# Altium schematic symbol library КОТ-С.SchLib: 64 symbols
Pins are listed as number, name and electrical type; pins without a type are passive.

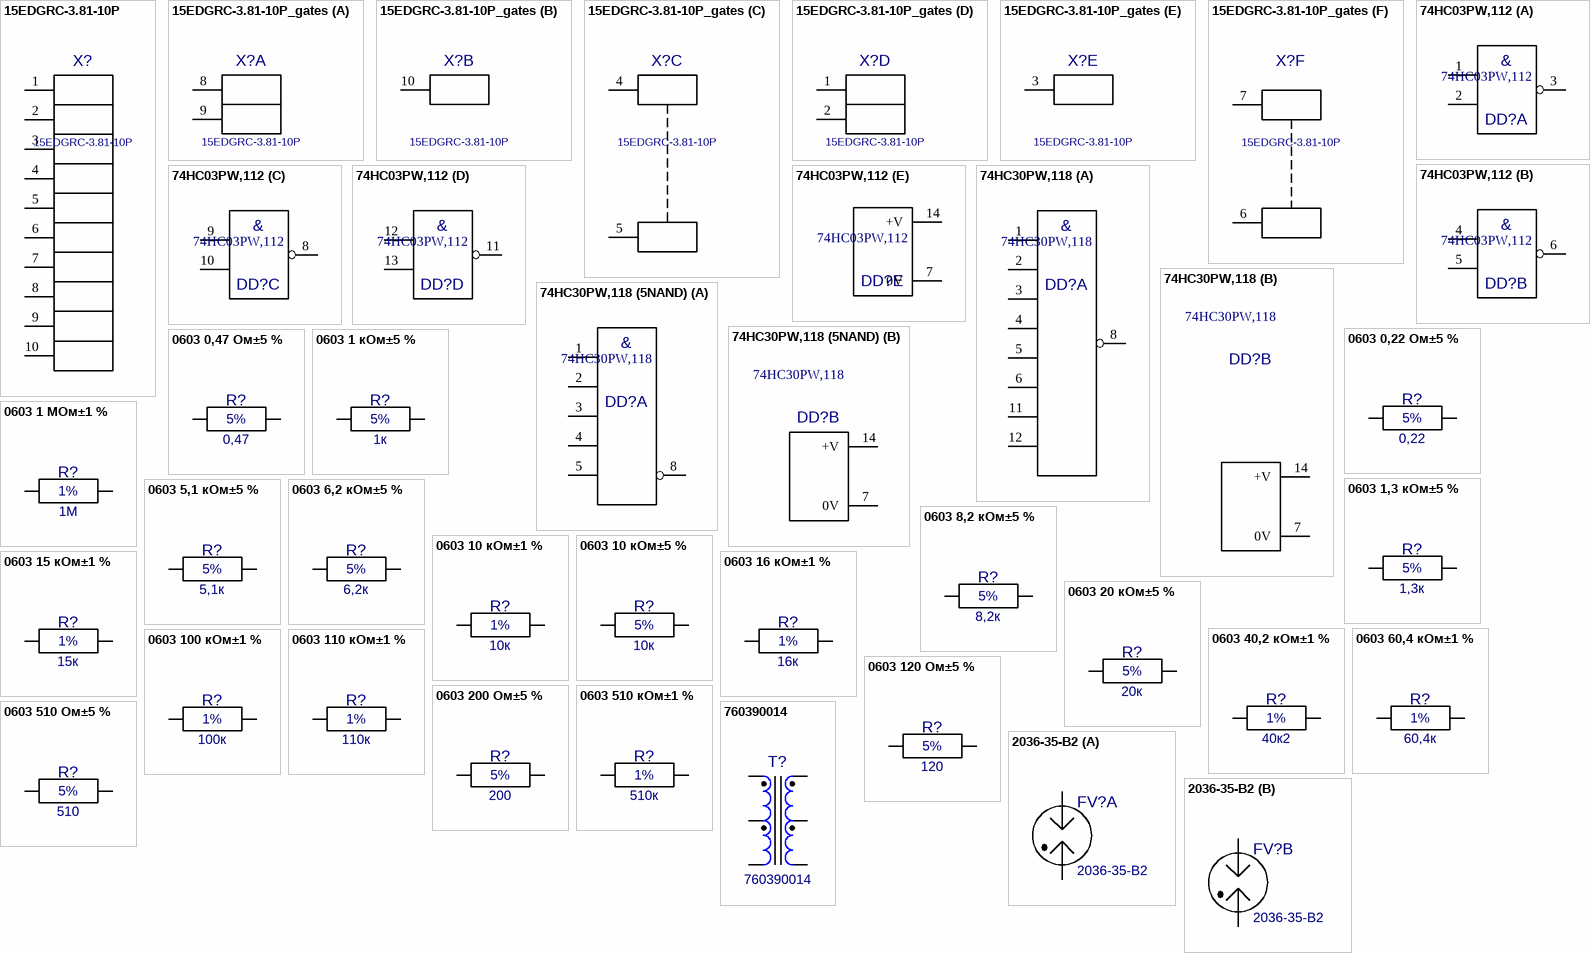
[diagram p0: symbols 15EDGRC-3.81-10P to 760390014]

## 15EDGRC-3.81-10P
designator X?
footprint 15EDGRC-3.81-10P
pins: 1, 2, 3, 4, 5, 6, 7, 8, 9, 10

## 15EDGRC-3.81-10P_gates
designator X?, comment 15EDGRC-3.81-10P
footprint 15EDGRC-3.81-10P
part A pins: 8, 9
part B pins: 10
part C pins: 4, 5
part D pins: 1, 2
part E pins: 3
part F pins: 6, 7

## 74HC03PW,112
designator DD?
Analog: SN74HC00QPWR; Supplier 1: Digi-Key; Supplier Part Number 1: 568-4551-5-ND; ComponentLink1URL: http://www.nxp.com/documents/data_sheet/74HC_HCT03_CNV.pdf; ComponentLink1Description: http://www.nxp.com/documents/data_sheet/74HC_HCT03_CNV.pdf; Price: 1=0.42, 10=0.332, 25=0.28, 100=0.2279, 250=0.1888, 500=0.15624, 1000=0.11718, 2500=0.10742, 5000=0.10091 (USD)
footprint TSSOP-14 (Shrink Small Outline; 14 Leads; Body Width 4.4 mm; Pitch 0.65 mm)
part A pins: 1 A, 2 B, 3 Y
part B pins: 4 A, 5 B, 6 Y
part C pins: 8 Y, 9 A, 10 B
part D pins: 11 Y, 12 A, 13 B
part E pins: 7 0V, 14 +V
part A text: &
part B text: &
part C text: &
part D text: &

## 74HC30PW,118
designator DD?
Analog: CD74HC30PWR; Supplier 1: Digi-Key; Supplier Part Number 1: 568-8875-1-ND; ComponentLink1URL: http://www.nxp.com/documents/data_sheet/74HC_HCT30.pdf; ComponentLink1Description: http://www.nxp.com/documents/data_sheet/74HC_HCT30.pdf; Price: 1=0.43, 10=0.335, 25=0.2828, 100=0.2303, 250=0.19076, 500=0.15758, 1000=0.11803 (USD)
footprint TSSOP-14 (Shrink Small Outline; 14 Leads; Body Width 4.4 mm; Pitch 0.65 mm)
part A pins: 1 A, 2 B, 3 C, 4 D, 5 E, 6 F, 8 Y, 11 G, 12 H
part B pins: 7 0V, 14 +V
part A text: &

## 74HC30PW,118 (5NAND)
designator DD?, comment 74HC30PW,118
Analog: CD74HC30PWR; Supplier 1: Digi-Key; Supplier Part Number 1: 568-8875-1-ND; ComponentLink1URL: http://www.nxp.com/documents/data_sheet/74HC_HCT30.pdf; ComponentLink1Description: http://www.nxp.com/documents/data_sheet/74HC_HCT30.pdf; Price: 1=0.43, 10=0.335, 25=0.2828, 100=0.2303, 250=0.19076, 500=0.15758, 1000=0.11803 (USD)
footprint TSSOP-14 (Shrink Small Outline; 14 Leads; Body Width 4.4 mm; Pitch 0.65 mm)
part A pins: 1 A, 2 B, 3 C, 4 D, 5 E, 6 F hidden to +3.3V, 8 Y, 9 NC hidden to GND, 10 NC hidden to GND, 11 G hidden to +3.3V, 12 H hidden to +3.3V, 13 NC hidden to GND
part B pins: 7 0V, 14 +V
part A text: &

## 0603 0,22 Ом±5 %
designator R?, comment 0,22
0603 0,22 Ом±5 %; Value: 0,22
footprint RESC1608L (Chip Resistor, Body 1.6x0.8mm, IPC High Density)
footprint RESC1608N (Chip Resistor, Body 1.6x0.8mm, IPC Medium Density)
pins: 1, 2
text: 5%

## 0603 0,47 Ом±5 %
designator R?, comment 0,47
0603 0,47 Ом±5 %; Value: 0,47
footprint RESC1608L (Chip Resistor, Body 1.6x0.8mm, IPC High Density)
footprint RESC1608N (Chip Resistor, Body 1.6x0.8mm, IPC Medium Density)
pins: 1, 2
text: 5%

## 0603 1 кОм±5 %
designator R?, comment 1к
0603 1 кОм±5 %; Value: 1к
footprint RESC1608L (Chip Resistor, Body 1.6x0.8mm, IPC High Density)
footprint RESC1608N (Chip Resistor, Body 1.6x0.8mm, IPC Medium Density)
pins: 1, 2
text: 5%

## 0603 1 МОм±1 %
designator R?, comment 1М
0603 1 МОм±1 %; Value: 1М
footprint RESC1608L (Chip Resistor, Body 1.6x0.8mm, IPC High Density)
footprint RESC1608N (Chip Resistor, Body 1.6x0.8mm, IPC Medium Density)
pins: 1, 2
text: 1%

## 0603 1,3 кОм±5 %
designator R?, comment 1,3к
0603 1,3 кОм±5 %; Value: 1,3к
footprint RESC1608L (Chip Resistor, Body 1.6x0.8mm, IPC High Density)
footprint RESC1608N (Chip Resistor, Body 1.6x0.8mm, IPC Medium Density)
pins: 1, 2
text: 5%

## 0603 5,1 кОм±5 %
designator R?, comment 5,1к
0603 5,1 кОм±5 %; Value: 5,1к
footprint RESC1608L (Chip Resistor, Body 1.6x0.8mm, IPC High Density)
footprint RESC1608N (Chip Resistor, Body 1.6x0.8mm, IPC Medium Density)
pins: 1, 2
text: 5%

## 0603 6,2 кОм±5 %
designator R?, comment 6,2к
0603 6,2 кОм±5 %; Value: 6,2к
footprint RESC1608L (Chip Resistor, Body 1.6x0.8mm, IPC High Density)
footprint RESC1608N (Chip Resistor, Body 1.6x0.8mm, IPC Medium Density)
pins: 1, 2
text: 5%

## 0603 8,2 кОм±5 %
designator R?, comment 8,2к
0603 8,2 кОм±5 %; Value: 8,2к
footprint RESC1608L (Chip Resistor, Body 1.6x0.8mm, IPC High Density)
footprint RESC1608N (Chip Resistor, Body 1.6x0.8mm, IPC Medium Density)
pins: 1, 2
text: 5%

## 0603 10 кОм±1 %
designator R?, comment 10к
0603 10 кОм±1 %; Value: 10к
footprint RESC1608L (Chip Resistor, Body 1.6x0.8mm, IPC High Density)
footprint RESC1608N (Chip Resistor, Body 1.6x0.8mm, IPC Medium Density)
pins: 1, 2
text: 1%

## 0603 10 кОм±5 %
designator R?, comment 10к
0603 10 кОм±5 %; Type: Резистор; Value: 10к
footprint RESC1608L (Chip Resistor, Body 1.6x0.8mm, IPC High Density)
footprint RESC1608N (Chip Resistor, Body 1.6x0.8mm, IPC Medium Density)
pins: 1, 2
text: 5%

## 0603 15 кОм±1 %
designator R?, comment 15к
0603 15 кОм±1 %; Value: 15к
footprint RESC1608L (Chip Resistor, Body 1.6x0.8mm, IPC High Density)
footprint RESC1608N (Chip Resistor, Body 1.6x0.8mm, IPC Medium Density)
pins: 1, 2
text: 1%

## 0603 16 кОм±1 %
designator R?, comment 16к
0603 16 кОм±1 %; Value: 16к
footprint RESC1608L (Chip Resistor, Body 1.6x0.8mm, IPC High Density)
footprint RESC1608N (Chip Resistor, Body 1.6x0.8mm, IPC Medium Density)
pins: 1, 2
text: 1%

## 0603 20 кОм±5 %
designator R?, comment 20к
0603 20 кОм±5 %; Value: 20к
footprint RESC1608L (Chip Resistor, Body 1.6x0.8mm, IPC High Density)
footprint RESC1608N (Chip Resistor, Body 1.6x0.8mm, IPC Medium Density)
pins: 1, 2
text: 5%

## 0603 40,2 кОм±1 %
designator R?, comment 40к2
0603 40,2 кОм±1 %; Value: 40к2
footprint RESC1608L (Chip Resistor, Body 1.6x0.8mm, IPC High Density)
footprint RESC1608N (Chip Resistor, Body 1.6x0.8mm, IPC Medium Density)
pins: 1, 2
text: 1%

## 0603 60,4 кОм±1 %
designator R?, comment 60,4к
0603 60,4 кОм±1 %; Value: 60,4к
footprint RESC1608L (Chip Resistor, Body 1.6x0.8mm, IPC High Density)
footprint RESC1608N (Chip Resistor, Body 1.6x0.8mm, IPC Medium Density)
pins: 1, 2
text: 1%

## 0603 100 кОм±1 %
designator R?, comment 100к
0603 100 кОм±1 %; Value: 100к
footprint RESC1608L (Chip Resistor, Body 1.6x0.8mm, IPC High Density)
footprint RESC1608N (Chip Resistor, Body 1.6x0.8mm, IPC Medium Density)
pins: 1, 2
text: 1%

## 0603 110 кОм±1 %
designator R?, comment 110к
0603 110 кОм±1 %; Value: 110к
footprint RESC1608L (Chip Resistor, Body 1.6x0.8mm, IPC High Density)
footprint RESC1608N (Chip Resistor, Body 1.6x0.8mm, IPC Medium Density)
pins: 1, 2
text: 1%

## 0603 120 Ом±5 %
designator R?, comment 120
0603 120 Ом±5 %; Value: 120
footprint RESC1608L (Chip Resistor, Body 1.6x0.8mm, IPC High Density)
footprint RESC1608N (Chip Resistor, Body 1.6x0.8mm, IPC Medium Density)
pins: 1, 2
text: 5%

## 0603 200 Ом±5 %
designator R?, comment 200
0603 200 Ом±5 %; Value: 200
footprint RESC1608L (Chip Resistor, Body 1.6x0.8mm, IPC High Density)
footprint RESC1608N (Chip Resistor, Body 1.6x0.8mm, IPC Medium Density)
pins: 1, 2
text: 5%

## 0603 510 кОм±1 %
designator R?, comment 510к
0603 510 кОм±1 %; Value: 510к
footprint RESC1608L (Chip Resistor, Body 1.6x0.8mm, IPC High Density)
footprint RESC1608N (Chip Resistor, Body 1.6x0.8mm, IPC Medium Density)
pins: 1, 2
text: 1%

## 0603 510 Ом±5 %
designator R?, comment 510
0603 510 Ом±5 %; Value: 510
footprint RESC1608L (Chip Resistor, Body 1.6x0.8mm, IPC High Density)
footprint RESC1608N (Chip Resistor, Body 1.6x0.8mm, IPC Medium Density)
pins: 1, 2
text: 5%

## 2036-35-B2
designator FV?
Current - AC Discharge (Nom): 10A; Impulse Discharge Current (8/20µs): 10kA; Supplier 1: Digi-Key; Supplier Part Number 1: 2036-35-B2LF-ND; ComponentLink1URL: http://www.bourns.com/data/global/PDFs/2036.pdf; ComponentLink1Description: http://www.bourns.com/data/global/PDFs/2036.pdf; Price: 1=2.17, 10=1.967, 25=1.8632, 50=1.587, 100=1.3455, 250=1.311, 500=1.104, 1000=0.98325, 2500=0.9315 (USD)
footprint 2036-35-B2
part A pins: 1, 2
part B pins: 2, 3

## 760390014
designator T?
Analog: 760390013; Supplier 1: Digi-Key; Supplier Part Number 1: 732-4458-1-ND; ComponentLink1URL: http://katalog.we-online.de/ctm/datasheet/760390014.pdf; ComponentLink1Description: http://katalog.we-online.de/ctm/datasheet/760390014.pdf; Price: 1=1.15, 10=1.06, 100=0.95 (USD)
footprint 7603900 (7603900 series Wurst Transformer for SN6501)
pins: 1, 2, 3, 4, 5, 6

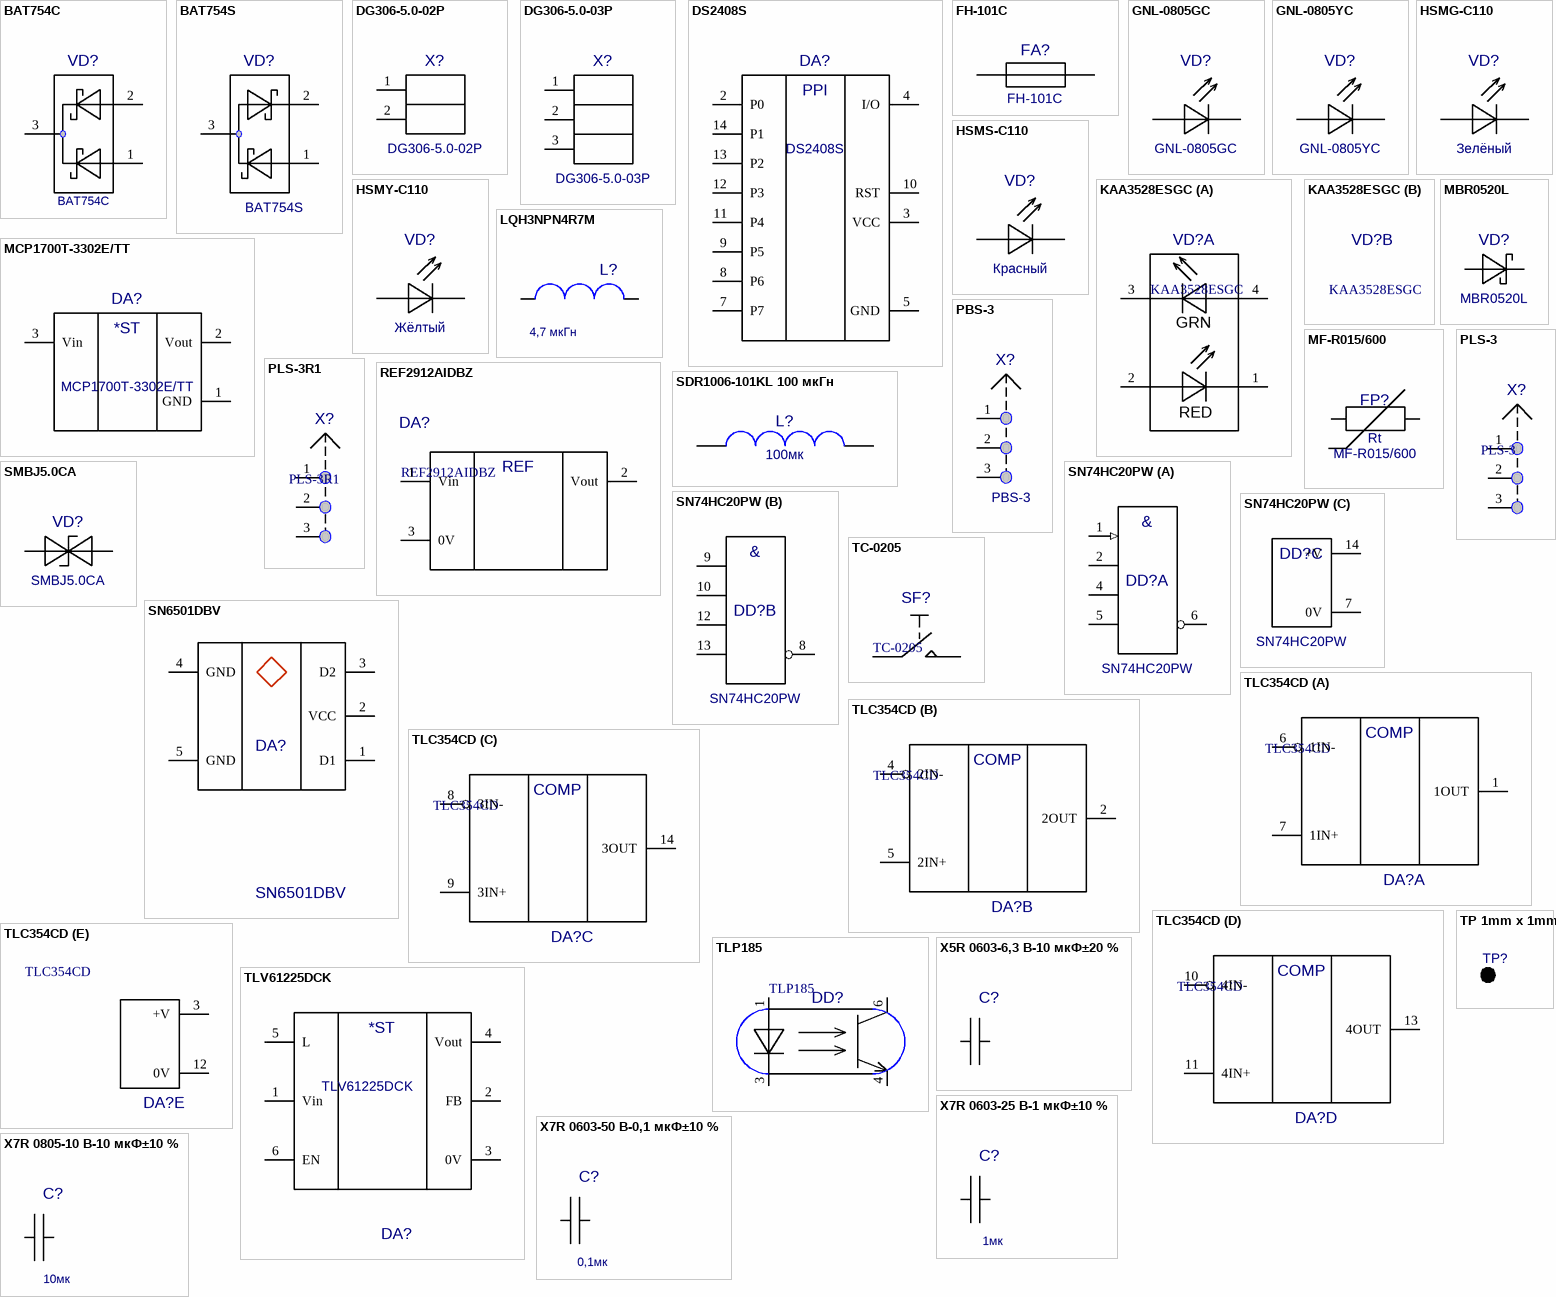
[diagram p1: symbols BAT754C to X7R 0805-10 В-10 мкФ±10 %]

## BAT754C
designator VD?
Analog: BAT54C; Supplier 1: Digi-Key; Supplier Part Number 1: 568-3421-6-ND; ComponentLink1URL: http://www.nxp.com/documents/data_sheet/BAT754_SER.pdf; ComponentLink1Description: http://www.nxp.com/documents/data_sheet/BAT754_SER.pdf; Price: 1=0.52, 10=0.365, 25=0.3, 100=0.2396, 250=0.17456, 500=0.14178, 1000=0.10897 (USD)
footprint SOT-023-3
pins: 1, 2, 3
3 alternate drawings of the same symbol

## BAT754S
designator VD?
Type: Диод; ComponentLink1URL: http://www.nxp.com/documents/data_sheet/BAT754_SER.pdf; ComponentLink1Description: http://www.nxp.com/documents/data_sheet/BAT754_SER.pdf; Price: 1=0.52, 10=0.365, 25=0.3, 100=0.2396, 250=0.17456, 500=0.14178, 1000=0.10897 (USD); Supplier 1: Digi-Key; Supplier Part Number 1: 568-3422-1-ND; Value: BAT754S
footprint SOT-023-3
pins: 1, 2, 3
2 alternate drawings of the same symbol

## DG306-5.0-02P
designator X?
Value: DG306-5.0-02P
footprint DG306-5.0-02P
pins: 1, 2
2 alternate drawings of the same symbol

## DG306-5.0-03P
designator X?
Value: DG306-5.0-03P
footprint DG306-5.0-03P
pins: 1, 2, 3
2 alternate drawings of the same symbol

## DS2408S
designator DA?
Supplier 1: Digi-Key; Supplier Part Number 1: DS2408S+T&RCT-ND; ComponentLink1URL: http://datasheets.maximintegrated.com/en/ds/DS2408.pdf; ComponentLink1Description: http://datasheets.maximintegrated.com/en/ds/DS2408.pdf; Price: 1=6.65, 10=6.273, 25=5.0184, 50=4.7674, 100=4.3911, 250=4.16528, 500=4.01472 (USD)
footprint SOIC16 (16-Pin Small Outline Integrated Circuit 1.27 mm Pitch, IPC Medium Density)
pins: 1 NC hidden to GND, 2 P0, 3 VCC, 4 I/O, 5 GND, 6 NC hidden to GND, 7 P7, 8 P6, 9 P5, 10 RST, 11 P4, 12 P3, 13 P2, 14 P1, 15 NC hidden to GND, 16 NC hidden to GND
text: PPI

## FH-101C
designator FA?
FH-101; Value: FH-101C
footprint FH-101
pins: 1, 2

## GNL-0805GC
designator VD?
Value: GNL-0805GC
footprint LED0805 green
pins: 1, 2

## GNL-0805YC
designator VD?
Value: GNL-0805YC
footprint LED0805 yellow
pins: 1, 2

## HSMG-C110
designator VD?  value Зелёный  (hidden comment: HSMG-C110)
Supplier 1: Digi-Key; Supplier Part Number 1: 516-1452-1-ND; ComponentLink1URL: http://www.avagotech.com/docs/AV02-0551EN; ComponentLink1Description: http://www.avagotech.com/docs/AV02-0551EN; Price: 1=0.55, 10=0.408, 25=0.3264, 100=0.2162, 250=0.153, 500=0.13056, 1000=0.1 (USD)
footprint HSMG-C110
pins: 1, 2

## HSMS-C110
designator VD?  value Красный  (hidden comment: HSMS-C110)
ComponentLink1URL: http://www.avagotech.com/docs/AV02-0551EN; ComponentLink1Description: http://www.avagotech.com/docs/AV02-0551EN; Supplier 1: Digi-Key; Supplier Part Number 1: 516-1449-1-ND; Price: 1=0.55, 10=0.408, 25=0.3264, 100=0.2162, 250=0.153, 500=0.13056, 1000=0.1 (USD)
footprint HSMS-C110 (Footprint not found)
pins: 1, 2

## HSMY-C110
designator VD?  value Жёлтый  (hidden comment: HSMY-C110)
ComponentLink1URL: http://www.avagotech.com/docs/AV02-0551EN; ComponentLink1Description: http://www.avagotech.com/docs/AV02-0551EN; Supplier 1: Digi-Key; Supplier Part Number 1: 516-1451-1-ND; Price: 1=0.55, 10=0.408, 25=0.3264, 100=0.2162, 250=0.153, 500=0.13056, 1000=0.1 (USD)
footprint HSMY-C110
pins: 1, 2

## KAA3528ESGC
designator VD?
Supplier 1: Farnell; Supplier Part Number 1: 2335789; ComponentLink1URL: http://www.farnell.com/datasheets/1718677.pdf; ComponentLink1Description: http://www.farnell.com/datasheets/1718677.pdf; Price: 1=0.48, 10=0.44, 50=0.41, 100=0.39, 250=0.37, 500=0.34, 500=0.306, 4000=0.275 (GBP)
footprint KAA3528ESGC
part A pins: 1, 2, 3, 4
1 alternate drawing of the same symbol
part A text: GRN; RED

## LQH3NPN4R7M
designator L?, comment 4,7 мкГн
LQH3NPN4R7M; Analog: NR3015T4R7M; Supplier 1: Digi-Key; Supplier Part Number 1: 490-6642-6-ND; Price: 1=0.48, 10=0.428, 25=0.38, 50=0.3326, 100=0.3088, 250=0.285, 500=0.27076, 750=0.247, 1000=0.2185 (USD); ComponentLink1URL: http://psearch.murata.com/inductor/lineup/pdf_list/DS_LQH3NPN_JR.pdf; ComponentLink1Description: http://psearch.murata.com/inductor/lineup/pdf_list/DS_LQH3NPN_JR.pdf
footprint INDC1212
pins: 1, 2

## MBR0520L
designator VD?
Supplier 1: Digi-Key; Supplier Part Number 1: MBR0520LCT-ND; ComponentLink1URL: http://www.fairchildsemi.com/ds/MB/MBR0520L.pdf; ComponentLink1Description: http://www.fairchildsemi.com/ds/MB/MBR0520L.pdf; Price: 1=0.36, 10=0.327, 25=0.2356, 100=0.1831, 250=0.11508, 500=0.09804, 1000=0.0668 (USD)
footprint SOD-123 (SM LED; 2 Flat Leads)
pins: 1, 2

## MCP1700T-3302E/TT
designator DA?
Supplier 1: Digi-Key; Supplier Part Number 1: MCP1700T3302ETTCT-ND; Price: 1=0.44, 10=0.37, 25=0.31, 100=0.28 (USD); ComponentLink1URL: http://www.microchip.com/mymicrochip/filehandler.aspx?ddocname=en011779; ComponentLink1Description: http://www.microchip.com/mymicrochip/filehandler.aspx?ddocname=en011779
footprint SOT-023-3
pins: 1 GND, 2 Vout, 3 Vin
text: *ST

## MF-R015/600
designator FP?
Current - Hold (Ih) (Max): 150mA; Current - Max: 3A; Current - Trip (It): 300mA; R Min/Max: 6.000 ~ 12.00 Ohm; Analog: TRF600-150; Supplier 1: Digi-Key; Supplier Part Number 1: MF-R015/600-0-ND; ComponentLink1URL: http://www.bourns.com/data/global/pdfs/mfr600.pdf; ComponentLink1Description: http://www.bourns.com/data/global/pdfs/mfr600.pdf; Price: 1=0.88, 10=0.795, 25=0.7672, 50=0.6576, 100=0.548, 250=0.53432, 500=0.4521, 1000=0.3973, 2500=0.37675 (USD)
footprint MF-R015/600
pins: 1, 2
text: Rt

## PBS-3
designator X?
footprint PBS-3
pins: 1, 2, 3
1 alternate drawing of the same symbol

## PLS-3
designator X?
footprint PLS-3
pins: 1, 2, 3

## PLS-3R1
designator X?
footprint PLS-3R-1 for PBS
pins: 1, 2, 3
1 alternate drawing of the same symbol

## REF2912AIDBZ
designator DA?
Supplier 1: Digi-Key; Supplier Part Number 1: 296-13480-6-ND; ComponentLink1URL: http://www.ti.com/lit/ds/symlink/ref2912.pdf; ComponentLink1Description: http://www.ti.com/lit/ds/symlink/ref2912.pdf; Price: 1=1.72, 10=1.555, 25=1.3932, 100=1.2528 (USD)
footprint SOT-023-3
pins: 1 Vin, 2 Vout, 3 0V
text: REF

## SDR1006-101KL 100 мкГн
designator L?, comment 100мк
SDR1006-101KL 100 мкГн; Manufacturer: Bourns Inc.; Current Rating: 970mA; Shielding: Unshielded; Inductance: 100µH; Frequency - Self Resonant: 5.2MHz; Current - Saturation: 1.7A; Tolerance: ±10%; Value: 100мк; Supplier 1: Digi-Key; Supplier Part Number 1: SDR1006-101KLDKR-ND; Operating Temperature: -40°C ~ 125°C; Manufacturer Part Number: SDR1006-101KL; Supplier: Digi-Key; Category: Inductors, Coils, Chokes; RoHS: RoHS Compliant; Height - Seated (Max): 0.228" (5.80mm); Size / Dimension: 0.386" L x 0.386" W (9.80mm x 9.80mm); Supplier Part Number: SDR1006-101KLDKR-ND
footprint SDR1006
pins: 1, 2

## SMBJ5.0CA
designator VD?
Power - Peak Pulse: 600W; Voltage - Breakdown (Min): 6.4V; Supplier 1: Digi-Key; Supplier Part Number 1: SMBJ5.0CABCT-ND; ComponentLink1URL: http://www.bourns.com/data/global/pdfs/SMBJ.pdf; ComponentLink1Description: http://www.bourns.com/data/global/pdfs/SMBJ.pdf; Price: 1=0.44, 10=0.347, 25=0.2932, 100=0.2388, 250=0.1978, 500=0.1634, 1000=0.12238 (USD)
footprint DO-214AA (SMB)
pins: 1, 2

## SN74HC20PW
designator DD?
Supplier 1: Digi-Key; Supplier Part Number 1: 296-33926-5-ND; ComponentLink1URL: http://www.ti.com/lit/ds/symlink/sn74hc20.pdf; ComponentLink1Description: http://www.ti.com/lit/ds/symlink/sn74hc20.pdf; Price: 1=0.45, 10=0.38, 50=0.3326, 100=0.285, 250=0.247, 500=0.209, 750=0.18051, 1000=0.1615 (USD); Value: SN74HC20PW
footprint TSSOP-14 (Shrink Small Outline; 14 Leads; Body Width 4.4 mm; Pitch 0.65 mm)
part A pins: 1 A1 (in), 2 B1, 3 NC hidden to GND, 4 C1, 5 D1, 6 Y1, 11 NC hidden to GND
part B pins: 8 Y2, 9 A2, 10 B2, 12 C2, 13 D2
part C pins: 7 0V, 14 +V
part A text: &
part B text: &

## SN6501DBV
designator DA?
Supplier 1: Digi-Key; Supplier Part Number 1: 296-37700-1-ND; ComponentLink1URL: http://www.ti.com/lit/ds/symlink/sn6501.pdf; ComponentLink1Description: http://www.ti.com/lit/ds/symlink/sn6501.pdf; Price: 1=2.3, 10=2.074, 25=1.8576, 100=1.6704, 250=1.4832, 500=1.296, 750=1.1736, 1000=0.9 (USD)
footprint SOT-023-5
pins: 1 D1, 2 VCC, 3 D2, 4 GND, 5 GND

## TC-0205
designator SF?
footprint TC-0205
pins: 1, 2

## TLC354CD
designator DA?
Supplier 1: Digi-Key; Supplier Part Number 1: 296-10292-5-ND; ComponentLink1URL: http://www.ti.com/lit/ds/symlink/tlc354.pdf; ComponentLink1Description: http://www.ti.com/lit/ds/symlink/tlc354.pdf; Price: 1=1.71, 10=1.54, 25=1.3752, 100=1.2375, 250=1.1, 500=0.9625, 750=0.869, 1000=0.7975 (USD); Value: TLC354CD
footprint SOIC-14 (14-Pin Small Outline Integrated Circuit 1.27 mm Pitch, IPC High Density)
part A pins: 1 1OUT, 6 1IN-, 7 1IN+
part B pins: 2 2OUT, 4 2IN-, 5 2IN+
part C pins: 8 3IN-, 9 3IN+, 14 3OUT
part D pins: 10 4IN-, 11 4IN+, 13 4OUT
part E pins: 3 +V, 12 0V
part A text: COMP
part B text: COMP
part C text: COMP
part D text: COMP

## TLP185
designator DD?
Analog: TLP181; Supplier 1: Digi-Key; Supplier Part Number 1: TLP185(GBE)-ND; ComponentLink1URL: http://www.semicon.toshiba.co.jp/docs/datasheet/en/Opto/TLP185_en_datasheet_120214.pdf; ComponentLink1Description: http://www.semicon.toshiba.co.jp/docs/datasheet/en/Opto/TLP185_en_datasheet_120214.pdf; Price: 1=0.53, 25=0.3412, 100=0.294, 250=0.26252, 500=0.22576, 1000=0.1743, 2500=0.1575, 5000=0.147 (USD)
footprint MFSOP6
pins: 1, 3, 4, 6
1 alternate drawing of the same symbol

## TLV61225DCK
designator DA?
Supplier 1: Digi-Key; Supplier Part Number 1: 296-36756-6-ND; ComponentLink1URL: http://www.ti.com/lit/ds/symlink/tlv61225.pdf; ComponentLink1Description: http://www.ti.com/lit/ds/symlink/tlv61225.pdf; Price: 1=1.06, 10=0.938, 25=0.8468, 100=0.7409, 250=0.64976, 500=0.57624, 750=0.50275, 1000=0.4557 (USD)
footprint SOT323-6N (SOT363, 6-Leads, Body 2x1.3mm, Pitch 0.65mm, Lead Span 2.1mm, IPC Medium Density)
pins: 1 Vin, 2 FB, 3 0V, 4 Vout, 5 L, 6 EN
text: *ST

## TP 1mm x 1mm
designator TP?
TP 1mm x 1mm
footprint 1mm x 1mm (Test Point)
pins: 1

## X5R 0603-6,3 В-10 мкФ±20 %
designator C?, comment 10мк  (value not drawn)
X5R 0603-6,3 В-10 мкФ±20 %; Supplier 1: Digi-Key; Supplier Part Number 1: 1276-1119-6-ND; ComponentLink1URL: http://www.samsungsem.com/servlet/FileDownload?type=spec&file=CL10A106MQ8NNNC.pdf; ComponentLink1Description: http://www.samsungsem.com/servlet/FileDownload?type=spec&file=CL10A106MQ8NNNC.pdf; Price: 1=0.19, 10=0.128, 25=0.0932, 50=0.0776, 100=0.0651, 250=0.05272, 500=0.0465, 1000=0.03953 (USD)
footprint CAPC1608L (Chip Capacitor, Body 1.6x0.8mm, IPC High Density)
pins: 1, 2

## X7R 0603-25 В-1 мкФ±10 %
designator C?, comment 1мк
X7R 0603-25 В-1 мкФ±10 %; Supplier 1: Digi-Key; Supplier Part Number 1: 445-1316-6-ND; ComponentLink1URL: http://product.tdk.com/en/catalog/datasheets/mlcc_commercial_general_en.pdf; ComponentLink1Description: http://product.tdk.com/en/catalog/datasheets/mlcc_commercial_general_en.pdf; Price: 1=0.1, 10=0.024, 100=0.011, 250=0.009, 500=0.0077, 1000=0.006 (USD)
footprint CAPC1608L (Chip Capacitor, Body 1.6x0.8mm, IPC High Density)
pins: 1, 2

## X7R 0603-50 В-0,1 мкФ±10 %
designator C?, comment 0,1мк
X7R 0603-50 В-0,1 мкФ±10 %; Supplier 1: Digi-Key; Supplier Part Number 1: 311-1344-1-ND; Price: 1=0.1, 10=0.027, 25=0.0192, 100=0.0125, 250=0.0102, 500=0.00874, 1000=0.00681 (USD); ComponentLink1URL: http://media.digikey.com/pdf/Data%20Sheets/Yageo%20PDFs/Class2,X7R_6.3-50V.pdf; ComponentLink1Description: http://media.digikey.com/pdf/Data%20Sheets/Yageo%20PDFs/Class2,X7R_6.3-50V.pdf
footprint CAPC1608L (Chip Capacitor, Body 1.6x0.8mm, IPC High Density)
pins: 1, 2

## X7R 0805-10 В-10 мкФ±10 %
designator C?, comment 10мк
X7R 0805-10 В-10 мкФ±10 %; Supplier 1: Digi-Key; Supplier Part Number 1: 1276-1764-1-ND; Price: 1=0.29, 10=0.2, 25=0.1452, 50=0.121, 100=0.1016, 250=0.08228, 500=0.0726, 1000=0.06171 (USD); ComponentLink1URL: http://www.samsungsem.com/servlet/FileDownload?type=spec&file=CL21B106KPQNNNE.pdf; ComponentLink1Description: http://www.samsungsem.com/servlet/FileDownload?type=spec&file=CL21B106KPQNNNE.pdf
footprint CAPC2012L (Chip Capacitor, Body 2.0x1.3mm, IPC High Density)
pins: 1, 2

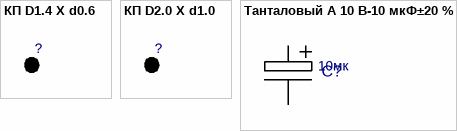
[diagram p2: symbols КП D1.4 X d0.6 to Танталовый A 10 В-10 мкФ±20 %]

## КП D1.4 X d0.6
designator ?
КП D1.4 X d0.6
footprint D1.4 Х d0.6
pins: 1

## КП D2.0 X d1.0
designator ?
КП D2.0 X d1.0
footprint D2.0 Х d1.0
pins: 1

## Танталовый A 10 В-10 мкФ±20 %
designator C?, comment 10мк
Танталовый A 10 В-10 мкФ±20 %; Supplier 1: Digi-Key; Supplier Part Number 1: 399-3684-1-ND; Price: 1=0.38, 10=0.337, 50=0.2044, 100=0.1684, 250=0.13468, 500=0.12266, 1000=0.11063 (USD)
footprint TC3216-1206 (Capacitor, SM Tantalum; Body 3.2 x 1.6 mm (LxW typ))
pins: 1, 2